# Altium schematic symbol library FSMSM.SchLib: 1 symbol
Pins are listed as number, name and electrical type; pins without a type are passive.

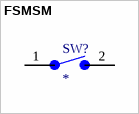
[diagram p0: symbol FSMSM]

## FSMSM
designator SW?
Switch Tactile OFF (ON) SPST Rectangular Button Gull Wing 0.05A 12VDC SMD Loose Piece; MP: FSMSM; MF: {'manufacturer': u'TE Connectivity'}; Availability: Unavailable; Package: None; Price: None; Value: *
footprint TE_FSMSM
pins: 1, 2